# Altium integrated library Diodes.IntLib: 22 symbols
Pins are listed as number, name and electrical type; pins without a type are passive.

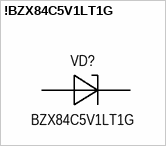
[diagram p0: symbol !BZX84C5V1LT1G]

## !BZX84C5V1LT1G
designator VD?, comment BZX84C5V1LT1G
!Diode Zener 5.1V 225mW; Manufacturer: ON Semiconductor; Group: Discrete; Component: Diode Zenner; Tolerance: ±6%; Voltage forward: 900mV; Package: SOT-23-3; Part name: BZX84C5V1LT1G; Dimension: 3.00mm x 2.60mm; Height: 1.10mm; Mounting type: Surface mount; Operating temperature: -65°C +150°C; Voltage nominal: 5.1V; Power: 225mW
footprint SOT-23
pins: 1 Anode, 3 Cathode


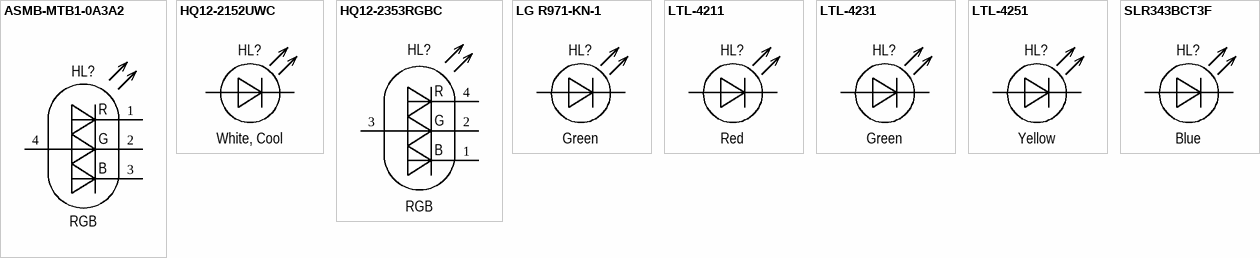
[diagram p1: symbols ASMB-MTB1-0A3A2 to SLR343BCT3F]

## ASMB-MTB1-0A3A2
designator HL?, comment RGB
LED RGB PLCC-4 CA; Manufacturer: Broadcom; Part name: ASMB-MTB1-0A3A2; Forward current: R 20mA, G 20mA, B 20mA; Wavelength: R 625nm, G 530nm, B 470nm; Forward voltage: R 2.1V, G 3.1V, B 3.1V; Component: LED Indication; Group: Discrete; Package: PLCC-4; Color: RGB; Operating temperature: -40°C +100°C; Mounting type: Surface mount; Dimension: 2.80mm x 3.20mm; Height: 1.90mm
footprint LEDRGBPLCC-4N (LED RGB Indication, Body 1.6x0.8mm)
pins: 1 RED, 2 GREEN, 3 BLUE, 4 CA
text: R; G; B

## HQ12-2152UWC
designator HL?, comment White, Cool
LED White 1206(3216) RA; Manufacturer: Harvatek; Part name: HQ12-2152UWC; Forward current: 20mA; Forward voltage: 3.1V; Component: LED Indication; Group: Discrete; Package: 1206 (3216) RA; Color: White, Cool; Operating temperature: -40°C +85°C; Mounting type: Surface mount, Right angle; Dimension: 3.20mm x 1.50mm; Height: 1.00mm
footprint LED3216RN (LED Indication, Body 3.2x1.6mm, Right Angle)
pins: A Anode, C Cathode

## HQ12-2353RGBC
designator HL?, comment RGB
LED RGB 1206(3216) RA CA; Manufacturer: Harvatek; Part name: HQ12-2353RGBC; Forward current: 25mA; Forward voltage: R 2.1V, G 2.7V, B 2.9V; Wavelength: R 625nm, G 528nm, B 470nm; Component: LED Indication; Group: Discrete; Package: 1206 (3216) RA; Color: RGB; Operating temperature: -30°C +85°C; Mounting type: Surface mount, Right angle; Dimension: 3.20mm x 1.40mm; Height: 1.00mm
footprint LEDRGB3216RN (LED RGB Indication, Body 3.2x1.6mm, Right Angle)
pins: 1 BLUE, 2 GREEN, 3 CA, 4 RED
text: R; G; B

## LG R971-KN-1
designator HL?, comment Green
LED Green 0805(2012); Manufacturer: OSRAM Opto Semiconductors; Part name: LG R971-KN-1; Forward current: 20mA; Forward voltage: 2.2V; Wavelength: 570nm; Component: LED Indication; Group: Discrete; Package: 0805 (2012); Color: Green; Operating temperature: -40°C +85°C; Mounting type: Surface mount; Dimension: 2.00mm x 1.25mm; Height: 0.90mm
footprint LED2012N (LED Indication, Body 2.0x1.2mm, Green color)
pins: A Anode, C Cathode

## LTL-4211
designator HL?, comment Red
LED Red TH D3mm; Manufacturer: Lite-On; Forward current: 10mA; Forward voltage: 2.1V; Wavelength: 657nm; Component: LED Indication; Group: Discrete; Package: T-1 (D3); Part name: LTL-4211; Color: Red; Operating temperature: -55°C +100°C; Mounting type: Through hole; Dimension: 4.00mm x 3.50mm; Height: 6.25mm
footprint LEDD3N (LED Indication, Body TH D3 4.0x3.5mm)
footprint LEDD3TBN (LED Indication, Body TH Throad board D3 4.0x3.5mm)
pins: A Anode, C Cathode

## LTL-4231
designator HL?, comment Green
LED Green TH D3mm; Manufacturer: Lite-On; Forward current: 10mA; Forward voltage: 2.1V; Wavelength: 569nm; Component: LED Indication; Group: Discrete; Package: T-1 (D3); Part name: LTL-4231; Color: Green; Operating temperature: -55°C +100°C; Mounting type: Through hole; Dimension: 4.00mm x 3.50mm; Height: 6.25mm
footprint LEDD3N (LED Indication, Body TH D3 4.0x3.5mm)
footprint LEDD3TBN (LED Indication, Body TH Throad board D3 4.0x3.5mm)
pins: A Anode, C Cathode

## LTL-4251
designator HL?, comment Yellow
LED Yellow TH D3mm; Manufacturer: Lite-On; Forward current: 10mA; Forward voltage: 2.1V; Wavelength: 588nm; Component: LED Indication; Group: Discrete; Package: T-1 (D3); Part name: LTL-4251; Color: Yellow; Operating temperature: -55°C +100°C; Mounting type: Through hole; Dimension: 4.00mm x 3.50mm; Height: 6.25mm
footprint LEDD3N (LED Indication, Body TH D3 4.0x3.5mm)
footprint LEDD3TBN (LED Indication, Body TH Throad board D3 4.0x3.5mm)
pins: A Anode, C Cathode

## SLR343BCT3F
designator HL?, comment Blue
LED Blue TH D3mm; Manufacturer: Lite-On; Part name: SLR343BCT3F; Forward current: 20mA; Forward voltage: 3.3V; Wavelength: 470nm; Component: LED Indication; Group: Discrete; Package: T-1 (D3); Color: Blue; Operating temperature: -55°C +100°C; Mounting type: Through hole; Dimension: 4.00mm x 3.50mm; Height: 6.25mm
footprint LEDD3N (LED Indication, Body TH D3 4.0x3.5mm)
footprint LEDD3TBN (LED Indication, Body TH Throad board D3 4.0x3.5mm)
pins: A Anode, C Cathode


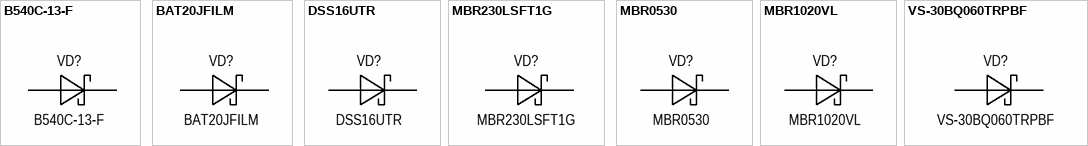
[diagram p2: symbols B540C-13-F to VS-30BQ060TRPBF]

## B540C-13-F
designator VD?
Diode Schottky 40V 5A(550mV); Manufacturer: Diodes Incorporated; Group: Discrete; Component: Diode Schotky; Package: DO-214AB; Part name: B540C-13-F; Reverse voltage: 40V; Forward current: 5A; Forward voltage: 550mV; Dimension: 6.22mm x 8.13mm; Height: 2.50mm; Mounting type: Surface mount; Operating temperature: -55°C +°150C
footprint DO-214AB (Footprint not found)
pins: A Anode, C Cathode

## BAT20JFILM
designator VD?
Diode Schottky 23V 1A(620mV); Manufacturer: STMicroelectronics; Group: Discrete; Component: Diode Schotky; Package: SOD-323; Part name: BAT20JFILM; Forward current: 1A; Forward voltage: 620mV; Reverse voltage: 23V; Dimension: 1.35mm x 2.70mm; Height: 1.13mm; Mounting type: Surface mount; Operating temperature: -55°C +°150C
footprint SOD-323L
pins: A Anode, C Cathode

## DSS16UTR
designator VD?
Diode Schottky 60V 1A(670mV) SOD-123FL; Manufacturer: SMC; Group: Discrete; Forward current: 1.0A; Component: Diode Schotky; Package: SOD-123FL; Part name: DSS16UTR; Forward voltage: 670mV; Dimension: 1.80mm x 3.80mm; Height: 1.10mm; Mounting type: Surface mount; Operating temperature: -55°C +150°C; Reverse voltage: 60V
footprint SOD-123F
pins: A Anode, C Cathode

## MBR230LSFT1G
designator VD?
Diode Schottky 30V 2A(430mV); Manufacturer: ON Semiconductor; Group: Discrete; Component: Diode Schotky; Package: SOD-123F; Part name: MBR230LSFT1G; Forward voltage: 430mV; Forward current: 2A; Dimension: 1.80mm x 3.80mm; Height: 0.98mm; Mounting type: Surface mount; Operating temperature: -55°C +°125C; Reverse voltage: 30V
footprint SOD-123F (Footprint not found)
pins: A Anode, C Cathode

## MBR0530
designator VD?
Diode Schottky 30V 0.5A(430mV); Manufacturer: ON Semiconductor; Group: Discrete; Component: Diode Schotky; Package: SOD-123; Part name: MBR0530; Forward voltage: 430mV; Forward current: 0.5A; Dimension: 1.95mm x 3.90mm; Height: 1.28mm; Mounting type: Surface mount; Operating temperature: -65°C +125°C; Reverse voltage: 30V
footprint SOD-123
pins: A Anode, C Cathode

## MBR1020VL
designator VD?
Diode Schottky 20V 1A(340mV); Manufacturer: Fairchild Semiconductor; Group: Discrete; Component: Diode Schotky; Package: SOD-123F; Part name: MBR1020VL; Forward voltage: 340mV; Forward current: 1A; Dimension: 1.95mm x 3.90mm; Height: 1.08mm; Mounting type: Surface mount; Operating temperature: -55°C +125°C; Reverse voltage: 20V
footprint SOD-123F (Footprint not found)
pins: A Anode, C Cathode

## VS-30BQ060TRPBF
designator VD?
Diode Schottky 60V 3A(580mV); Manufacturer: Diodes Incorporated; Group: Discrete; Component: Diode Schotky; Package: DO-214AB; Part name: VS-30BQ060TRPBF; Reverse voltage: 60V; Forward current: 3A; Forward voltage: 580mV; Dimension: 6.22mm x 8.13mm; Height: 2.50mm; Mounting type: Surface mount; Operating temperature: -55°C +°150C
footprint DO-214AB (Footprint not found)
pins: A Anode, C Cathode


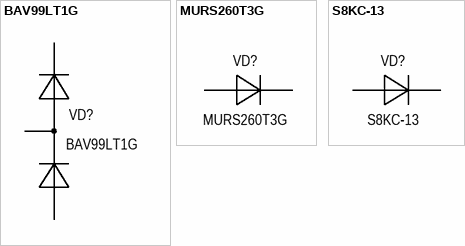
[diagram p3: symbols BAV99LT1G to S8KC-13]

## BAV99LT1G
designator VD?
Diode Rectifier 2-Ch 100V 0.215A(1.25V) 6ns; Manufacturer: ON Semiconductor; Group: Discrete; Forward voltage: 0.985V; Package: SOT-23-3; Part name: BAV99LT1G; Forward current: 0.215A; Component: Diode Rectifier; Dimension: 3.00mm x 2.60mm; Height: 1.10mm; Mounting type: Surface mount; Operating temperature: -65°C +175°C; Reverse voltage: 100V; Reverse recovery time: 6ns
footprint SOT-23-3N
footprint SOT-23-3L
pins: 1 Anode, 2 Cathode, 3 Anode

## MURS260T3G
designator VD?
Diode Rectifier 800V 2A(1.45V) 75ns; Manufacturer: ON Semiconductor; Group: Discrete; Reverse voltage: 600V; Package: DO-214AA; Part name: MURS260T3G; Forward current: 2A; Forward voltage: 1.45V; Component: Diode Rectifier; Dimension: 3.95mm x 5.60mm; Height: 2.50mm; Mounting type: Surface mount; Operating temperature: -65°C +150°C; Reverse recovery time: 75ns
footprint DO-214AA
pins: A Anode, C Cathode

## S8KC-13
designator VD?
Diode Rectifier 800V 8A(0.985V) 2700ns; Manufacturer: ON Semiconductor; Group: Discrete; Package: DO-214AB; Part name: S8KC-13; Forward current: 8A; Forward voltage: 0.985V; Component: Diode Rectifier; Dimension: 6.22mm x 8.13mm; Height: 2.50mm; Mounting type: Surface mount; Operating temperature: -65°C +175°C; Reverse voltage: 800V; Reverse recovery time: 2700ns
footprint DO-214AB
pins: A Anode, C Cathode


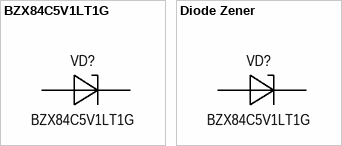
[diagram p4: symbols BZX84C5V1LT1G to Diode Zener]

## BZX84C5V1LT1G
designator VD?
Diode Zener 5.1V 225mW; Manufacturer: ON Semiconductor; Group: Discrete; Component: Diode Zenner; Tolerance: ±6%; Voltage forward: 900mV; Package: SOT-23-3; Part name: BZX84C5V1LT1G; Dimension: 3.00mm x 2.60mm; Height: 1.10mm; Mounting type: Surface mount; Operating temperature: -65°C +150°C; Voltage nominal: 5.1V; Power: 225mW
footprint SOT-23-3N
pins: 1 Anode, 3 Cathode

## Diode Zener
designator VD?, comment BZX84C5V1LT1G
Diode Zener SOD-106; Manufacturer: ON Semiconductor; Group: Discrete; Component: Diode Zenner; Voltage nominal: 5.1V; Tolerance: ±6%; Power: 225mW; Voltage forward: 900mV; Package: SOT-23-3; Part name: BZX84C5V1LT1G; Dimension: 3.00mm x 2.60mm; Height: 1.10mm; Mounting type: Surface mount; Operating temperature: -65°C +150°C
footprint SOD-106
pins: A Anode, C Cathode


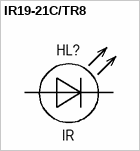
[diagram p5: symbol IR19-21C/TR8]

## IR19-21C/TR8
designator HL?, comment IR
LED IR 0603(1608); Manufacturer: Everlight Electronics; Part name: IR19-21C/TR8; Wavelength: 940nm; Forward current: 65mA; Forward voltage: 1.2V; Component: LED Indication; Group: Discrete; Package: 0603 (1608); Operating temperature: -40°C +85°C; Color: IR; Mounting type: Surface mount; Dimension: 1.60mm x 0.80mm; Height: 0.90mm
footprint LED IR 0603N
pins: A Anode, C Cathode